# Altium integrated library Altera Stratix II GX.IntLib: 75 symbols (part 36 of 42)
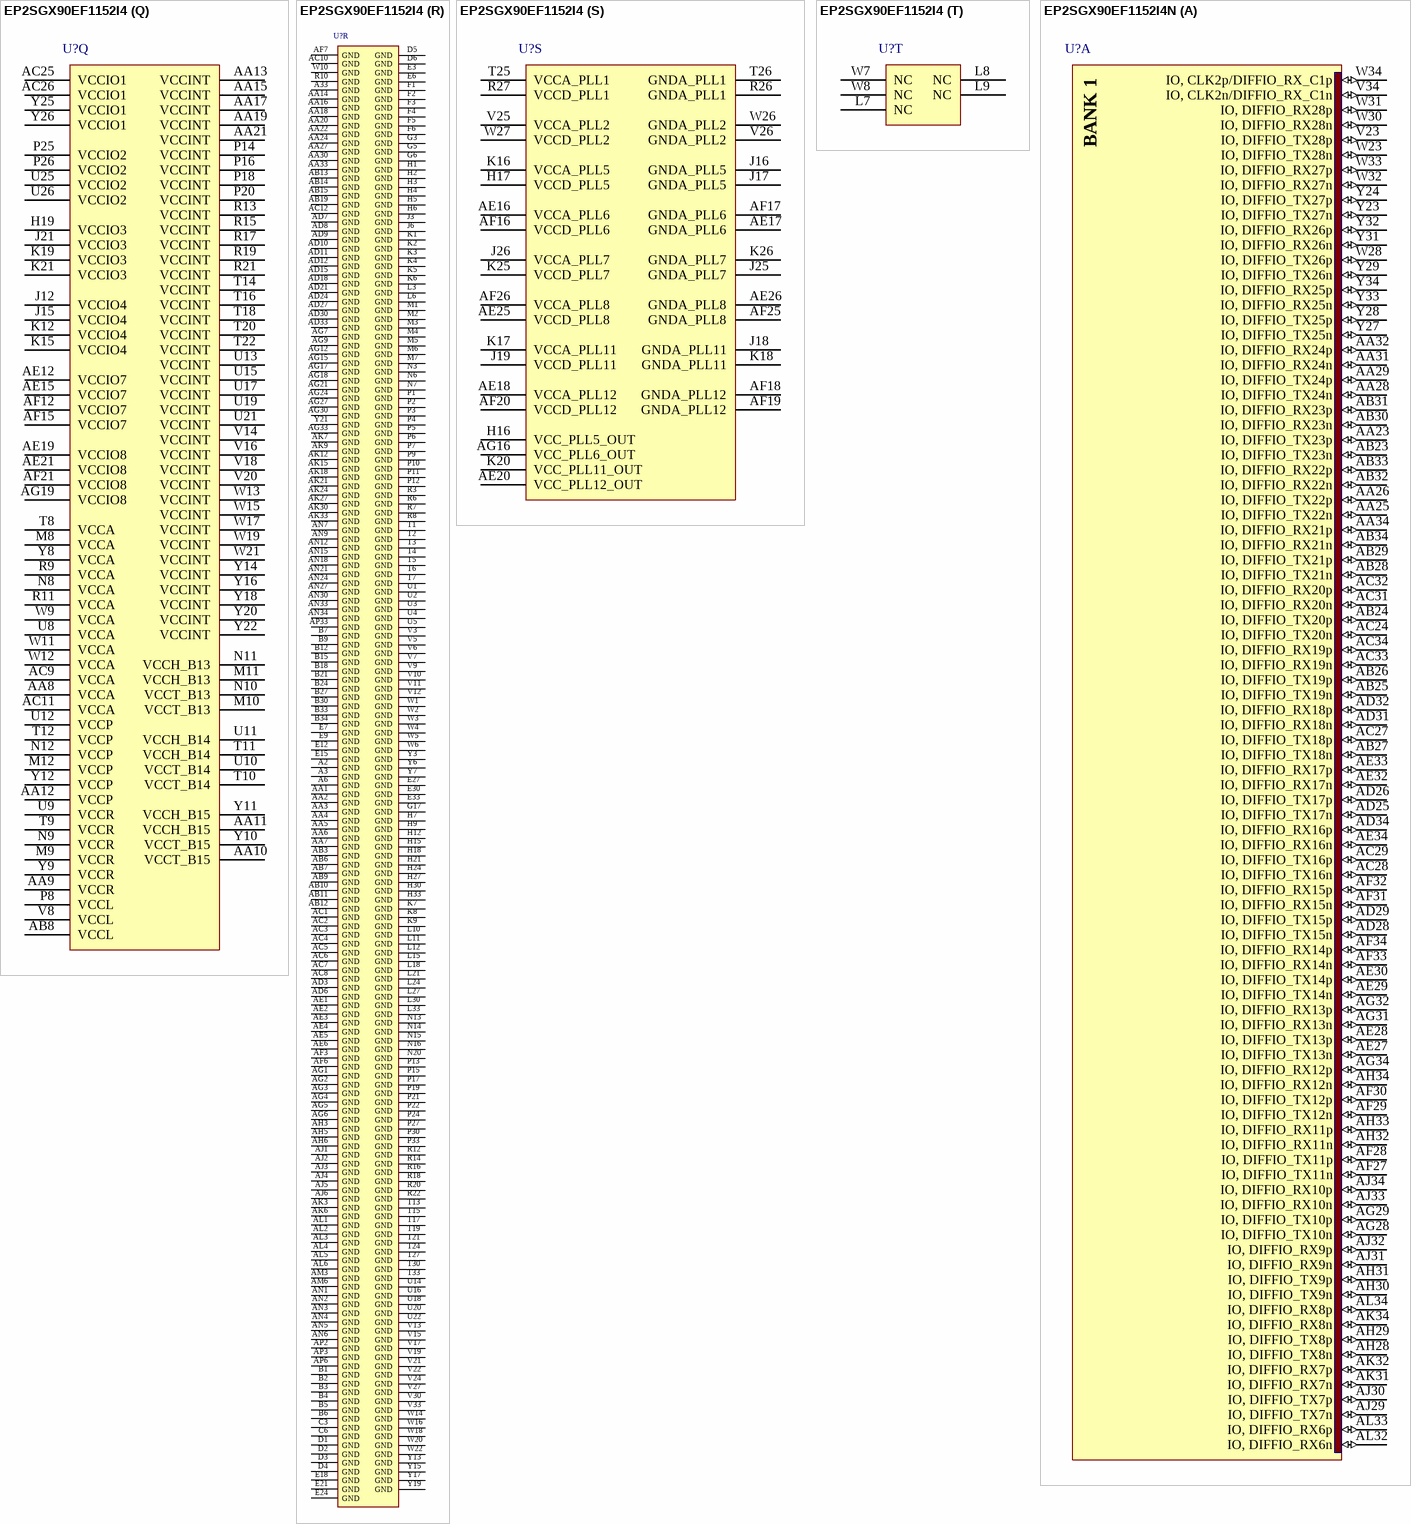
[diagram p223: symbols EP2SGX90EF1152I4 to EP2SGX90EF1152I4N]

## EP2SGX90EF1152I4
designator U?
Stratix II GX 1.2V FPGA, 558 I/Os, 1152-Pin FineLine BGA, Speed Grade 4, Industrial Grade; Published: 13-Apr-2006; LatestRevisionDate: 30-Jun-2006; LatestRevisionNote: GXB_GND pins changed to GND according to update of pinout data from vendor. DCLK changed to bidirectional pin.; DatasheetVersion: Apr-2006; PackageVersion: ver14.2, Oct-2005; PackageReference: FBGA1152; Publisher: Altium Limited; PackageDescription: 1152-Ball FineLine Ball Grid Array (FBGA1152) - Flip Chip; Code_JEDEC: MS-034-AAR-1; ComponentLink1Description: Manufacturer Link; ComponentLink1URL: http://www.altera.com/products/devices/stratix2gx/s2gx-index.jsp; ComponentLink2Description: Handbook; ComponentLink2URL: http://www.altera.com/literature/hb/stx2gx/stxiigx_handbook.pdf; ComponentLink3Description: Packaging Specification; ComponentLink3URL: http://www.altera.com/literature/ds/dspkg.pdf
footprint FBGA1152 (BGA, 1152-Leads, Body 35x35mm, Pitch 1mm)
3D model EP2SGX90E-FBGA1152 (1152-Ball FineLine Ball Grid Array (FBGA1152) - Flip Chip)
signal-integrity model EP2SGX90EF1152I4 (EP2SGX90E)
part A pins: AA23 IO, DIFFIO_TX23p (io), AA25 IO, DIFFIO_TX22n (io), AA26 IO, DIFFIO_TX22p (io), AA28 IO, DIFFIO_TX24n (io), AA29 IO, DIFFIO_TX24p (io), AA31 IO, DIFFIO_RX24n (io), AA32 IO, DIFFIO_RX24p (io), AA34 IO, DIFFIO_RX21p (io), AB23 IO, DIFFIO_TX23n (io), AB24 IO, DIFFIO_TX20p (io), AB25 IO, DIFFIO_TX19n (io), AB26 IO, DIFFIO_TX19p (io), AB27 IO, DIFFIO_TX18n (io), AB28 IO, DIFFIO_TX21n (io), AB29 IO, DIFFIO_TX21p (io), AB30 IO, DIFFIO_RX23n (io), AB31 IO, DIFFIO_RX23p (io), AB32 IO, DIFFIO_RX22n (io), AB33 IO, DIFFIO_RX22p (io), AB34 IO, DIFFIO_RX21n (io), AC24 IO, DIFFIO_TX20n (io), AC27 IO, DIFFIO_TX18p (io), AC28 IO, DIFFIO_TX16n (io), AC29 IO, DIFFIO_TX16p (io), AC31 IO, DIFFIO_RX20n (io), AC32 IO, DIFFIO_RX20p (io), AC33 IO, DIFFIO_RX19n (io), AC34 IO, DIFFIO_RX19p (io), AD25 IO, DIFFIO_TX17n (io), AD26 IO, DIFFIO_TX17p (io), AD28 IO, DIFFIO_TX15n (io), AD29 IO, DIFFIO_TX15p (io), AD31 IO, DIFFIO_RX18n (io), AD32 IO, DIFFIO_RX18p (io), AD34 IO, DIFFIO_RX16p (io), AE27 IO, DIFFIO_TX13n (io), AE28 IO, DIFFIO_TX13p (io), AE29 IO, DIFFIO_TX14n (io), AE30 IO, DIFFIO_TX14p (io), AE32 IO, DIFFIO_RX17n (io), AE33 IO, DIFFIO_RX17p (io), AE34 IO, DIFFIO_RX16n (io), AF27 IO, DIFFIO_TX11n (io), AF28 IO, DIFFIO_TX11p (io), AF29 IO, DIFFIO_TX12n (io), AF30 IO, DIFFIO_TX12p (io), AF31 IO, DIFFIO_RX15n (io), AF32 IO, DIFFIO_RX15p (io), AF33 IO, DIFFIO_RX14n (io), AF34 IO, DIFFIO_RX14p (io), AG28 IO, DIFFIO_TX10n (io), AG29 IO, DIFFIO_TX10p (io), AG31 IO, DIFFIO_RX13n (io), AG32 IO, DIFFIO_RX13p (io), AG34 IO, DIFFIO_RX12p (io), AH28 IO, DIFFIO_TX8n (io), AH29 IO, DIFFIO_TX8p (io), AH30 IO, DIFFIO_TX9n (io), AH31 IO, DIFFIO_TX9p (io), AH32 IO, DIFFIO_RX11n (io), AH33 IO, DIFFIO_RX11p (io), AH34 IO, DIFFIO_RX12n (io), AJ29 IO, DIFFIO_TX7n (io), AJ30 IO, DIFFIO_TX7p (io), AJ31 IO, DIFFIO_RX9n (io), AJ32 IO, DIFFIO_RX9p (io), AJ33 IO, DIFFIO_RX10n (io), AJ34 IO, DIFFIO_RX10p (io), AK31 IO, DIFFIO_RX7n (io), AK32 IO, DIFFIO_RX7p (io), AK34 IO, DIFFIO_RX8n (io), AL32 IO, DIFFIO_RX6n (io), AL33 IO, DIFFIO_RX6p (io), AL34 IO, DIFFIO_RX8p (io), V23 IO, DIFFIO_TX28p (io), V34 IO, CLK2n/DIFFIO_RX_C1n (io), W23 IO, DIFFIO_TX28n (io), W28 IO, DIFFIO_TX26p (io), W30 IO, DIFFIO_RX28n (io), W31 IO, DIFFIO_RX28p (io), W32 IO, DIFFIO_RX27n (io), W33 IO, DIFFIO_RX27p (io), W34 IO, CLK2p/DIFFIO_RX_C1p (io), Y23 IO, DIFFIO_TX27n (io), Y24 IO, DIFFIO_TX27p (io), Y27 IO, DIFFIO_TX25n (io), Y28 IO, DIFFIO_TX25p (io), Y29 IO, DIFFIO_TX26n (io), Y31 IO, DIFFIO_RX26n (io), Y32 IO, DIFFIO_RX26p (io), Y33 IO, DIFFIO_RX25n (io), Y34 IO, DIFFIO_RX25p (io)
part B pins: D32 IO, DIFFIO_RX50n (io), D33 IO, DIFFIO_RX50p (io), D34 IO, DIFFIO_RX48n (io), E31 IO, DIFFIO_RX49n (io), E32 IO, DIFFIO_RX49p (io), E34 IO, DIFFIO_RX48p (io), F30 IO, DIFFIO_TX51p (io), F31 IO, DIFFIO_RX47n (io), F32 IO, DIFFIO_RX47p (io), F33 IO, DIFFIO_RX46n (io), F34 IO, DIFFIO_RX46p (io), G30 IO, DIFFIO_TX50n (io), G31 IO, DIFFIO_TX51n (io), G32 IO, DIFFIO_RX45n (io), G33 IO, DIFFIO_RX45p (io), G34 IO, DIFFIO_RX43p (io), H29 IO, DIFFIO_TX50p (io), H31 IO, DIFFIO_RX44n (io), H32 IO, DIFFIO_RX44p (io), H34 IO, DIFFIO_RX43n (io), J28 IO, DIFFIO_TX49p (io), J29 IO, DIFFIO_TX48n (io), J30 IO, DIFFIO_TX48p (io), J31 IO, DIFFIO_RX42n (io), J32 IO, DIFFIO_RX42p (io), J33 IO, DIFFIO_RX41n (io), J34 IO, DIFFIO_RX41p (io), K27 IO, DIFFIO_TX49n (io), K28 IO, DIFFIO_TX44p (io), K29 IO, DIFFIO_TX47n (io), K30 IO, DIFFIO_TX47p (io), K32 IO, DIFFIO_RX40n (io), K33 IO, DIFFIO_RX40p (io), K34 IO, DIFFIO_RX38n (io), L25 IO, DIFFIO_TX46n (io), L26 IO, DIFFIO_TX46p (io), L28 IO, DIFFIO_TX44n (io), L29 IO, DIFFIO_TX43p (io), L31 IO, DIFFIO_RX39n (io), L32 IO, DIFFIO_RX39p (io), L34 IO, DIFFIO_RX38p (io), M25 IO, DIFFIO_TX45n (io), M26 IO, DIFFIO_TX45p (io), M27 IO, DIFFIO_TX42n (io), M28 IO, DIFFIO_TX42p (io), M29 IO, DIFFIO_TX43n (io), M31 IO, DIFFIO_RX37n (io), M32 IO, DIFFIO_RX37p (io), M33 IO, DIFFIO_RX36n (io), M34 IO, DIFFIO_RX36p (io), N23 IO, DIFFIO_TX39p (io), N24 IO, DIFFIO_TX40n (io), N25 IO, DIFFIO_TX40p (io), N26 IO, DIFFIO_TX41n (io), N27 IO, DIFFIO_TX41p (io), N28 IO, DIFFIO_TX38n (io), N29 IO, DIFFIO_TX38p (io), N30 IO, DIFFIO_RX35n (io), N31 IO, DIFFIO_RX35p (io), N32 IO, DIFFIO_RX34n (io), N33 IO, DIFFIO_RX34p (io), N34 IO, DIFFIO_RX32p (io), P23 IO, DIFFIO_TX39n (io), P28 IO, DIFFIO_TX37n (io), P29 IO, DIFFIO_TX37p (io), P31 IO, DIFFIO_RX33n (io), P32 IO, DIFFIO_RX33p (io), P34 IO, DIFFIO_RX32n (io), R23 IO, DIFFIO_TX35p (io), R28 IO, DIFFIO_TX36n (io), R29 IO, DIFFIO_TX36p (io), R31 IO, DIFFIO_RX31n (io), R32 IO, DIFFIO_RX31p (io), R33 IO, DIFFIO_RX30n (io), R34 IO, DIFFIO_RX30p (io), T23 IO, DIFFIO_TX35n (io), T28 IO, DIFFIO_TX34n (io), T29 IO, DIFFIO_TX34p (io), T31 IO, DIFFIO_RX29n (io), T32 IO, DIFFIO_RX29p (io), T34 IO, CLK0n/DIFFIO_RX_C0n (io), U23 IO, DIFFIO_TX33n (io), U24 IO, DIFFIO_TX33p (io), U27 IO, DIFFIO_TX29p (io), U28 IO, DIFFIO_TX31n (io), U29 IO, DIFFIO_TX31p (io), U30 IO, DIFFIO_TX32n (io), U31 IO, DIFFIO_TX32p (io), U34 IO, CLK0p/DIFFIO_RX_C0p (io), V28 IO, DIFFIO_TX29n (io), V29 IO, DIFFIO_TX30n (io), W29 IO, DIFFIO_TX30p (io)
part C pins: A21 IO, DQ10T/DQ5T1/DQ2T2/DQ1T2 (io), A22 IO, DQ11T/DQ5T5/DQ2T5/DQ1T6 (io), A23 IO, DQ12T/DQ6T1/DQ2T11/DQ1T12 (io), A24 IO, DQ13T/DQ6T5/DQ2T15/DQ1T15 (io), A25 IO, DQ13T/DQ6T6/DQ2T16/DQ1T16 (io), A26 IO, DQ14T/DQ7T3/DQ3T4/DQ1T22 (io), A27 IO, DQ15T/DQ7T5/DQ3T5/DQ1T24 (io), A28 IO, DQ15T/DQ7T6/DQ3T6/DQ1T25 (io), A29 IO, DQ16T/DQ8T0/DQ3T10/DQ1T29 (io), A30 IO, DQ17T/DQ8T5/DQ3T15/DQ1T34 (io), A31 IO, DQS17T/DQVLD8T (io), A32 IO, DQ17T/DQ8T6/DQ3T16/DQ1T35 (io), B19 IO, CLK14p (io), B22 IO, DQ11T/DQ5T6/DQ2T6/DQ1T7 (io), B23 IO, DQ12T/DQ6T0/DQ2T10/DQ1T11 (io), B25 IO, DQS13T/DQVLD6T/DQS1T (io), B26 IO, DQ14T/DQ7T0/DQ3T1/DQ1T19 (io), B28 IO, DQS15T/DQVLD7T/DQS3T (io), B29 IO, DQ16T/DQ8T3/DQ3T13/DQ1T32 (io), B31 IO, DQSn17T/DQ8T4/DQ3T14/DQ1T33 (io), B32 IO, DQ17T/DQ8T7/DQ3T17 (io), C19 IO, CLK14n (io), C21 IO, DQ10T/DQ5T0/DQ2T1/DQ1T1 (io), C22 IO, DQS11T/DQVLD5T/DQS2T (io), C23 IO, DQS12T/DQS6T/DQVLD2T/DQVLD1T (io), C24 IO, DQSn12T/DQSn6T/DQ2T9/DQ1T10 (io), C25 IO, DQSn13T/DQ6T4/DQ2T14/DQSn1T (io), C26 IO, DQS14T/DQS7T (io), C27 IO, DQ15T/DQ7T7/DQ3T7/DQ1T26 (io), C28 IO, DQSn15T/DQ7T4/DQSn3T/DQ1T23 (io), C29 IO, DQS16T/DQS8T/DQVLD3T (io), C30 IO, DQ17T/DQ8T8 (io), D19 IO, CLK15p (io), D21 IO, DQSn10T/DQSn5T/DQ2T0/DQ1T0 (io), D22 IO, DQS10T/DQS5T (io), D23 IO, DQSn11T/DQ5T4/DQSn2T/DQ1T5 (io), D24 IO, DQ12T/DQ6T2/DQ2T12/DQ1T13 (io), D25 IO, DQ13T/DQ6T8 (io), D26 IO, DQSn14T/DQSn7T/DQ3T0/DQ1T18 (io), D27 IO, DQ15T/DQ7T8/DQ3T8/DQ1T27 (io), D28 IO, DQ16T/DQ8T1/DQ3T11/DQ1T30 (io), D29 IO, DQSn16T/DQSn8T/DQ3T9/DQ1T28 (io), E19 IO, CLK15n (io), E23 IO, DQ11T/DQ5T8/DQ2T8/DQ1T9 (io), E26 IO, DQ14T/DQ7T1/DQ3T2/DQ1T20 (io), E29 IO, DQ16T/DQ8T2/DQ3T12/DQ1T31 (io), F21 IO, DQ10T/DQ5T2/DQ2T3/DQ1T3 (io), F22 IO, DQ10T/DQ5T3/DQ2T4/DQ1T4 (io), F23 IO, DQ11T/DQ5T7/DQ2T7/DQ1T8 (io), F24 IO, DQ12T/DQ6T3/DQ2T13/DQ1T14 (io), F25 IO, DQ13T/DQ6T7/DQ2T17/DQ1T17 (io), F26 IO, DQ14T/DQ7T2/DQ3T3/DQ1T21 (io), F27 IO (DATA3) (io), F28 IO (RDYnBSY) (io), F29 IO (io), G20 IO (PGM2) (io), G21 IO (nCSO) (io), G22 IO (CRC_ERROR) (io), G23 IO (io), G24 IO (io), G25 IO (DATA2) (io), G26 IO (DATA6) (io), G27 IO (DATA5) (io), G28 IO (INIT_DONE) (io), G29 IO (io), H20 IO (PGM1) (io), H22 IO (PGM0) (io), H23 IO (io), H25 IO (DATA4) (io), H26 IO (DATA7) (io), H28 IO (io), J20 IO (DATA0) (io), J22 IO (DATA1) (io), J23 IO (io), J24 IO (io), J27 IO (io), K22 IO (io), K23 IO (io), K24 IO (io), L22 IO (io), L23 IO (io), M20 IO (io), M21 IO (io), M22 IO (io), M23 IO (io), M24 IO (io), N21 IO (ASDO) (io), N22 IO (io)
part D pins: A7 IO, DQ0T/DQ0T3 (io), A8 IO, DQ1T/DQ0T8 (io), A9 IO, DQ2T/DQ1T3/DQ0T4/DQ0T4 (io), A10 IO, DQ3T/DQ1T8/DQ0T8/DQ0T9 (io), A11 IO, DQ4T/DQ2T3/DQ0T13/DQ0T14 (io), A12 IO, DQ5T/DQ2T8 (io), A13 IO, DQ6T/DQ3T3/DQ1T4/DQ0T22 (io), A14 IO, DQ7T/DQ3T8/DQ1T8/DQ0T27 (io), A15 IO, DQ8T/DQ4T0/DQ1T10/DQ0T29 (io), A16 IO, DQ9T/DQ4T5/DQ1T15/DQ0T34 (io), A18 IO, CLK12p (io), A19 IO, CLK12n (io), B8 IO, DQ1T/DQ0T5 (io), B10 IO, DQ3T/DQ1T5/DQ0T5/DQ0T6 (io), B11 IO, DQ4T/DQ2T0/DQ0T10/DQ0T11 (io), B13 IO, DQ6T/DQ3T0/DQ1T1/DQ0T19 (io), B14 IO, DQ7T/DQ3T5/DQ1T5/DQ0T24 (io), B16 IO, DQ9T/DQ4T6/DQ1T16/DQ0T35 (io), C7 IO, DQSn0T/DQSn0T (io), C8 IO, DQSn1T/DQ0T4 (io), C9 IO, DQSn2T/DQSn1T/DQ0T0/DQ0T0 (io), C10 IO, DQSn3T/DQ1T4/DQSn0T/DQ0T5 (io), C11 IO, DQSn4T/DQSn2T/DQ0T9/DQ0T10 (io), C12 IO, DQSn5T/DQ2T4/DQ0T14/DQSn0T (io), C13 IO, DQSn6T/DQSn3T/DQ1T0/DQ0T18 (io), C14 IO, DQSn7T/DQ3T4/DQSn1T/DQ0T23 (io), C15 IO, DQSn8T/DQSn4T/DQ1T9/DQ0T28 (io), C16 IO, DQS9T/DQVLD4T (io), C18 IO, CLK13p (io), D7 IO, DQS0T/DQS0T (io), D8 IO, DQS1T/DQVLD0T (io), D9 IO, DQS2T/DQS1T (io), D10 IO, DQS3T/DQVLD1T/DQS0T (io), D11 IO, DQS4T/DQS2T/DQVLD0T/DQVLD0T (io), D12 IO, DQS5T/DQVLD2T/DQS0T (io), D13 IO, DQS6T/DQS3T (io), D14 IO, DQS7T/DQVLD3T/DQS1T (io), D15 IO, DQS8T/DQS4T/DQVLD1T (io), D16 IO, DQSn9T/DQ4T4/DQ1T14/DQ0T33 (io), D18 IO, CLK13n (io), E8 IO, DQ1T/DQ0T6 (io), E11 IO, DQ4T/DQ2T1/DQ0T11/DQ0T12 (io), E14 IO, DQ7T/DQ3T7/DQ1T7/DQ0T26 (io), F7 IO, DQ0T/DQ0T0 (io), F8 IO, DQ1T/DQ0T7 (io), F9 IO, DQ2T/DQ1T0/DQ0T1/DQ0T1 (io), F10 IO, DQ3T/DQ1T6/DQ0T6/DQ0T7 (io), F11 IO, DQ4T/DQ2T2/DQ0T12/DQ0T13 (io), F12 IO, DQ5T/DQ2T5/DQ0T15/DQ0T15 (io), F13 IO, DQ6T/DQ3T1/DQ1T2/DQ0T20 (io), F14 IO, DQ7T/DQ3T6/DQ1T6/DQ0T25 (io), F15 IO, DQ8T/DQ4T1/DQ1T11/DQ0T30 (io), F16 IO, DQ9T/DQ4T7/DQ1T17 (io), F18 IO (io), F19 IO (io), G7 IO, DQ0T/DQ0T1 (io), G8 IO, DQ2T/DQ1T1/DQ0T2/DQ0T2 (io), G9 IO, DQ2T/DQ1T2/DQ0T3/DQ0T3 (io), G10 IO, DQ3T/DQ1T7/DQ0T7/DQ0T8 (io), G11 IO, DQ5T/DQ2T7/DQ0T17/DQ0T17 (io), G12 IO, DQ5T/DQ2T6/DQ0T16/DQ0T16 (io), G13 IO, DQ6T/DQ3T2/DQ1T3/DQ0T21 (io), G14 IO, DQ8T/DQ4T3/DQ1T13/DQ0T32 (io), G15 IO, DQ8T/DQ4T2/DQ1T12/DQ0T31 (io), G16 IO, DQ9T/DQ4T8 (io), G18 IO (io), G19 IO (io), H8 IO, DQ0T/DQ0T2 (io), H13 IO (io), H14 IO (io), J11 IO, RUP4 (io), J13 IO (io), J14 IO (io), K11 IO, RDN4 (io), K13 IO (io), K14 IO (io), L13 IO (io), L14 IO (io), M13 IO (io), M14 IO (io), M15 IO (io), M16 IO (io), M17 IO (io), M18 IO (io), M19 IO (io), N17 IO (io), N18 IO (io), N19 IO (io)
part E pins: AB16 IO (io), AC13 IO (io), AC14 IO (io), AC15 IO (io), AC16 IO (io), AC17 IO (io), AD13 IO (io), AD14 IO (io), AE9 IO, RUP7 (io), AE10 IO, RDN7 (io), AE11 IO (io), AE13 IO (io), AE14 IO (io), AF10 IO (io), AF11 IO (io), AF13 IO (io), AF14 IO (io), AG8 IO, DQ0B/DQ0B2 (io), AG10 IO (io), AG11 IO (io), AG13 IO (io), AG14 IO (io), AH7 IO, DQ0B/DQ0B1 (io), AH8 IO, DQ2B/DQ1B1/DQ0B2/DQ0B2 (io), AH9 IO, DQ2B/DQ1B2/DQ0B3/DQ0B3 (io), AH10 IO, DQ3B/DQ1B7/DQ0B7/DQ0B8 (io), AH11 IO, DQ5B/DQ2B7/DQ0B17/DQ0B17 (io), AH12 IO, DQ5B/DQ2B6/DQ0B16/DQ0B16 (io), AH13 IO, DQ6B/DQ3B2/DQ1B3/DQ0B21 (io), AH14 IO (io), AH15 IO, DQ8B/DQ4B2/DQ1B12/DQ0B31 (io), AH16 IO, DQ8B/DQ4B3/DQ1B13/DQ0B32 (io), AH17 IO (io), AJ7 IO, DQ0B/DQ0B0 (io), AJ8 IO, DQ1B/DQ0B7 (io), AJ9 IO, DQ2B/DQ1B0/DQ0B1/DQ0B1 (io), AJ10 IO, DQ3B/DQ1B6/DQ0B6/DQ0B7 (io), AJ11 IO, DQ4B/DQ2B2/DQ0B12/DQ0B13 (io), AJ12 IO, DQ5B/DQ2B5/DQ0B15/DQ0B15 (io), AJ13 IO, DQ6B/DQ3B1/DQ1B2/DQ0B20 (io), AJ14 IO, DQ7B/DQ3B6/DQ1B6/DQ0B25 (io), AJ15 IO, DQ8B/DQ4B1/DQ1B11/DQ0B30 (io), AJ16 IO, DQ9B/DQ4B8 (io), AJ17 IO (io), AK8 IO, DQ1B/DQ0B6 (io), AK11 IO, DQ4B/DQ2B1/DQ0B11/DQ0B12 (io), AK14 IO, DQ7B/DQ3B7/DQ1B7/DQ0B26 (io), AK16 IO, DQ9B/DQ4B7/DQ1B17 (io), AK19 IO, CLK7n (io), AL7 IO, DQS0B/DQS0B (io), AL8 IO, DQS1B/DQVLD0B (io), AL9 IO, DQS2B/DQS1B (io), AL10 IO, DQS3B/DQVLD1B/DQS0B (io), AL11 IO, DQS4B/DQS2B/DQVLD0B/DQVLD0B (io), AL12 IO, DQS5B/DQVLD2B/DQS0B (io), AL13 IO, DQS6B/DQS3B (io), AL14 IO, DQS7B/DQVLD3B/DQS1B (io), AL15 IO, DQS8B/DQS4B/DQVLD1B (io), AL16 IO, DQSn9B/DQ4B4/DQ1B14/DQ0B33 (io), AL19 IO, CLK7p (io), AM7 IO, DQSn0B/DQSn0B (io), AM8 IO, DQSn1B/DQ0B4 (io), AM9 IO, DQSn2B/DQSn1B/DQ0B0/DQ0B0 (io), AM10 IO, DQSn3B/DQ1B4/DQSn0B/DQ0B5 (io), AM11 IO, DQSn4B/DQSn2B/DQ0B9/DQ0B10 (io), AM12 IO, DQSn5B/DQ2B4/DQ0B14/DQSn0B (io), AM13 IO, DQSn6B/DQSn3B/DQ1B0/DQ0B18 (io), AM14 IO, DQSn7B/DQ3B4/DQSn1B/DQ0B23 (io), AM15 IO, DQSn8B/DQSn4B/DQ1B9/DQ0B28 (io), AM16 IO, DQS9B/DQVLD4B (io), AN8 IO, DQ1B/DQ0B5 (io), AN10 IO, DQ3B/DQ1B5/DQ0B5/DQ0B6 (io), AN11 IO, DQ4B/DQ2B0/DQ0B10/DQ0B11 (io), AN13 IO, DQ6B/DQ3B0/DQ1B1/DQ0B19 (io), AN14 IO, DQ7B/DQ3B5/DQ1B5/DQ0B24 (io), AN16 IO, DQ9B/DQ4B6/DQ1B16/DQ0B35 (io), AP7 IO, DQ0B/DQ0B3 (io), AP8 IO, DQ1B/DQ0B8 (io), AP9 IO, DQ2B/DQ1B3/DQ0B4/DQ0B4 (io), AP10 IO, DQ3B/DQ1B8/DQ0B8/DQ0B9 (io), AP11 IO, DQ4B/DQ2B3/DQ0B13/DQ0B14 (io), AP12 IO, DQ5B/DQ2B8 (io), AP13 IO, DQ6B/DQ3B3/DQ1B4/DQ0B22 (io), AP14 IO, DQ7B/DQ3B8/DQ1B8/DQ0B27 (io), AP15 IO, DQ8B/DQ4B0/DQ1B10/DQ0B29 (io), AP16 IO, DQ9B/DQ4B5/DQ1B15/DQ0B34 (io), AP18 IO, CLK6p (io), AP19 IO, CLK6n (io)
part F pins: AB17 IO (io), AB18 IO (io), AB20 IO (io), AB21 IO (io), AB22 IO (io), AC18 IO (io), AC19 IO (io), AC20 IO (io), AC21 IO (io), AC22 IO (io), AC23 IO (io), AD22 IO (io), AD23 IO (io), AE22 IO (io), AE23 IO (io), AF22 IO (io), AF23 IO (io), AG20 IO (DEV_OE) (io), AG22 IO (io), AG23 IO (io), AG25 IO (nRS) (io), AG26 IO (nWS) (io), AH18 IO (RUnLU) (io), AH19 IO, CLK5n (io), AH20 IO (DEV_CLRn) (io), AH21 IO (io), AH22 IO (io), AH23 IO (io), AH24 IO (io), AH25 IO (io), AH26 IO (CLKUSR) (io), AH27 IO (CS) (io), AJ18 IO (nCS) (io), AJ19 IO, CLK5p (io), AJ21 IO, DQ10B/DQ5B0/DQ2B1/DQ1B1 (io), AJ22 IO, DQ10B/DQ5B3/DQ2B4/DQ1B4 (io), AJ23 IO, DQ12B/DQ6B2/DQ2B12/DQ1B13 (io), AJ24 IO, DQ13B/DQ6B8 (io), AJ25 IO, DQ13B/DQ6B7/DQ2B17/DQ1B17 (io), AJ26 IO, DQ14B/DQ7B2/DQ3B3/DQ1B21 (io), AJ27 IO, DQ15B/DQ7B8/DQ3B8/DQ1B27 (io), AJ28 IO, DQ15B/DQ7B7/DQ3B7/DQ1B26 (io), AK23 IO, DQ12B/DQ6B1/DQ2B11/DQ1B12 (io), AK26 IO, DQ14B/DQ7B1/DQ3B2/DQ1B20 (io), AK29 IO (io), AL21 IO, DQS10B/DQS5B (io), AL22 IO, DQSn10B/DQSn5B/DQ2B0/DQ1B0 (io), AL23 IO, DQS12B/DQS6B/DQVLD2B/DQVLD1B (io), AL24 IO, DQSn12B/DQSn6B/DQ2B9/DQ1B10 (io), AL25 IO, DQSn13B/DQ6B4/DQ2B14/DQSn1B (io), AL26 IO, DQSn14B/DQSn7B/DQ3B0/DQ1B18 (io), AL27 IO, DQS15B/DQVLD7B/DQS3B (io), AL28 IO, DQSn15B/DQ7B4/DQSn3B/DQ1B23 (io), AL29 IO (io), AM19 IO, CLK4n (io), AM21 IO, DQ10B/DQ5B2/DQ2B3/DQ1B3 (io), AM22 IO, DQ11B/DQ5B6/DQ2B6/DQ1B7 (io), AM23 IO, DQ11B/DQ5B8/DQ2B8/DQ1B9 (io), AM24 IO, DQ12B/DQ6B3/DQ2B13/DQ1B14 (io), AM25 IO, DQS13B/DQVLD6B/DQS1B (io), AM26 IO, DQS14B/DQS7B (io), AM27 IO, DQ15B/DQ7B6/DQ3B6/DQ1B25 (io), AM28 IO, DQ16B/DQ8B0/DQ3B10/DQ1B29 (io), AM29 IO, DQ16B/DQ8B2/DQ3B12/DQ1B31 (io), AM30 IO, DQ17B/DQ8B8 (io), AN19 IO, CLK4p (io), AN22 IO, DQS11B/DQVLD5B/DQS2B (io), AN23 IO, DQSn11B/DQ5B4/DQSn2B/DQ1B5 (io), AN25 IO, DQ13B/DQ6B6/DQ2B16/DQ1B16 (io), AN26 IO, DQ14B/DQ7B3/DQ3B4/DQ1B22 (io), AN28 IO, DQS16B/DQS8B/DQVLD3B (io), AN29 IO, DQSn16B/DQSn8B/DQ3B9/DQ1B28 (io), AN31 IO, DQSn17B/DQ8B4/DQ3B14/DQ1B33 (io), AN32 IO, DQ17B/DQ8B7/DQ3B17 (io), AP21 IO, DQ10B/DQ5B1/DQ2B2/DQ1B2 (io), AP22 IO, DQ11B/DQ5B5/DQ2B5/DQ1B6 (io), AP23 IO, DQ11B/DQ5B7/DQ2B7/DQ1B8 (io), AP24 IO, DQ12B/DQ6B0/DQ2B10/DQ1B11 (io), AP25 IO, DQ13B/DQ6B5/DQ2B15/DQ1B15 (io), AP26 IO, DQ14B/DQ7B0/DQ3B1/DQ1B19 (io), AP27 IO, DQ15B/DQ7B5/DQ3B5/DQ1B24 (io), AP28 IO, DQ16B/DQ8B1/DQ3B11/DQ1B30 (io), AP29 IO, DQ16B/DQ8B3/DQ3B13/DQ1B32 (io), AP30 IO, DQ17B/DQ8B5/DQ3B15/DQ1B34 (io), AP31 IO, DQS17B/DQVLD8B (io), AP32 IO, DQ17B/DQ8B6/DQ3B16/DQ1B35 (io)
part G pins: A17 IO, PLL5_OUT0p (io), B17 IO, PLL5_OUT0n (io), C17 IO, PLL5_OUT1p (io), D17 IO, PLL5_OUT1n (io), E17 IO, PLL5_FBp/OUT2p (io), F17 IO, PLL5_FBn/OUT2n (io)
part H pins: AL17 IO, PLL6_FBn/OUT2n (io), AL18 IO, PLL6_OUT1n (io), AM17 IO, PLL6_FBp/OUT2p (io), AM18 IO, PLL6_OUT1p (io), AN17 IO, PLL6_OUT0n (io), AP17 IO, PLL6_OUT0p (io)
part I pins: A20 IO, PLL11_OUT0p (io), B20 IO, PLL11_OUT0n (io), C20 IO, PLL11_OUT1p (io), D20 IO, PLL11_OUT1n (io), E20 IO, PLL11_FBp/OUT2p (io), F20 IO, PLL11_FBn/OUT2n (io)
part J pins: AJ20 IO, PLL12_FBn/OUT2n (io), AK20 IO, PLL12_FBp/OUT2p (io), AL20 IO, PLL12_OUT1n (io), AM20 IO, PLL12_OUT1p (io), AN20 IO, PLL12_OUT0n (io), AP20 IO, PLL12_OUT0p (io)
part K pins: A4 GXB_TX1p (out), A5 GXB_TX1n (out), C1 GXB_RX1p (in), C2 GXB_RX1n (in), C4 GXB_TX0p (out), C5 GXB_TX0n (out), E1 GXB_RX0p (in), E2 GXB_RX0n (in), E4 REFCLK1_B13p (in), E5 REFCLK1_B13n (in), G1 REFCLK0_B13p (in), G2 REFCLK0_B13n (in), J1 GXB_RX2p (in), J2 GXB_RX2n (in), J4 GXB_TX2p (out), J5 GXB_TX2n (out), L1 GXB_RX3p (in), L2 GXB_RX3n (in), L4 GXB_TX3p (out), L5 GXB_TX3n (out)
part L pins: AB1 GXB_RX7p (in), AB2 GXB_RX7n (in), AB4 GXB_TX7p (out), AB5 GXB_TX7n (out), N1 GXB_RX5p (in), N2 GXB_RX5n (in), N4 GXB_TX5p (out), N5 GXB_TX5n (out), R1 GXB_RX4p (in), R2 GXB_RX4n (in), R4 GXB_TX4p (out), R5 GXB_TX4n (out), U6 REFCLK1_B14p (in), U7 REFCLK1_B14n (in), V1 REFCLK0_B14p (in), V2 REFCLK0_B14n (in), Y1 GXB_RX6p (in), Y2 GXB_RX6n (in), Y4 GXB_TX6p (out), Y5 GXB_TX6n (out)
part M pins: AD1 GXB_RX9p (in), AD2 GXB_RX9n (in), AD4 GXB_TX9p (out), AD5 GXB_TX9n (out), AF1 GXB_RX8p (in), AF2 GXB_RX8n (in), AF4 GXB_TX8p (out), AF5 GXB_TX8n (out), AH1 REFCLK1_B15p (in), AH2 REFCLK1_B15n (in), AK1 GXB_RX10p (in), AK2 GXB_RX10n (in), AK4 REFCLK0_B15p (in), AK5 REFCLK0_B15n (in), AM1 GXB_RX11p (in), AM2 GXB_RX11n (in), AM4 GXB_TX10p (out), AM5 GXB_TX10n (out), AP4 GXB_TX11p (out), AP5 GXB_TX11n (out)
part N pins: AM33 FPLL8CLKn, INPUT (in), AM34 FPLL8CLKp, INPUT (in), C33 FPLL7CLKn, INPUT (in), C34 FPLL7CLKp, INPUT (in), U32 CLK1n, INPUT (in), U33 CLK1p, INPUT (in), V31 CLK3n, INPUT (in), V32 CLK3p, INPUT (in)
part O pins: AC30 VREFB1N1 (in), AE31 VREFB1N0 (in), AH4 RREFB15 (in), AK10 VREFB7N2 (in), AK13 VREFB7N1 (in), AK17 VREFB7N0 (in), AK22 VREFB8N2 (in), AK25 VREFB8N1 (in), AK28 VREFB8N0 (in), E10 VREFB4N0 (in), E13 VREFB4N1 (in), E16 VREFB4N2 (in), E22 VREFB3N0 (in), E25 VREFB3N1 (in), E28 VREFB3N2 (in), G4 RREFB13 (in), K31 VREFB2N2 (in), M30 VREFB2N1 (in), R30 VREFB2N0 (in), V4 RREFB14 (in), Y30 VREFB1N2 (in)
part P pins: AD16 VCCPD7 (power), AD17 VCCPD7 (power), AD19 VCCPD8 (power), AD20 VCCPD8 (power), AE7 nIO_PULLUP (in), AE8 PORSEL (in), AE24 nCONFIG (in), AF8 PLL_ENA (in), AF9 nCEO (out), AF24 VCCSEL (in), AL30 TCK (in), AL31 TDI (in), AM31 TRST (in), AM32 TMS (in), C31 nSTATUS (io), C32 DCLK (io), D30 nCE (in), D31 CONF_DONE (io), H10 TDO (out), H11 MSEL3 (in), J7 TEMPDIODEn (in), J8 TEMPDIODEp (in), J9 MSEL1 (in), J10 MSEL2 (in), K10 MSEL0 (in), L16 VCCPD4 (power), L17 VCCPD4 (power), L19 VCCPD3 (power), L20 VCCPD3 (power), R24 VCCPD2 (power), R25 VCCPD2 (power), W24 VCCPD1 (power), W25 VCCPD1 (power)
part Q pins: AA8 VCCA (power), AA9 VCCR (power), AA10 VCCT_B15 (power), AA11 VCCH_B15 (power), AA12 VCCP (power), AA13 VCCINT (power), AA15 VCCINT (power), AA17 VCCINT (power), AA19 VCCINT (power), AA21 VCCINT (power), AB8 VCCL (power), AC9 VCCA (power), AC11 VCCA (power), AC25 VCCIO1 (power), AC26 VCCIO1 (power), AE12 VCCIO7 (power), AE15 VCCIO7 (power), AE19 VCCIO8 (power), AE21 VCCIO8 (power), AF12 VCCIO7 (power), AF15 VCCIO7 (power), AF21 VCCIO8 (power), AG19 VCCIO8 (power), H19 VCCIO3 (power), J12 VCCIO4 (power), J15 VCCIO4 (power), J21 VCCIO3 (power), K12 VCCIO4 (power), K15 VCCIO4 (power), K19 VCCIO3 (power), K21 VCCIO3 (power), M8 VCCA (power), M9 VCCR (power), M10 VCCT_B13 (power), M11 VCCH_B13 (power), M12 VCCP (power), N8 VCCA (power), N9 VCCR (power), N10 VCCT_B13 (power), N11 VCCH_B13 (power), N12 VCCP (power), P8 VCCL (power), P14 VCCINT (power), P16 VCCINT (power), P18 VCCINT (power), P20 VCCINT (power), P25 VCCIO2 (power), P26 VCCIO2 (power), R9 VCCA (power), R11 VCCA (power), R13 VCCINT (power), R15 VCCINT (power), R17 VCCINT (power), R19 VCCINT (power), R21 VCCINT (power), T8 VCCA (power), T9 VCCR (power), T10 VCCT_B14 (power), T11 VCCH_B14 (power), T12 VCCP (power), T14 VCCINT (power), T16 VCCINT (power), T18 VCCINT (power), T20 VCCINT (power), T22 VCCINT (power), U8 VCCA (power), U9 VCCR (power), U10 VCCT_B14 (power), U11 VCCH_B14 (power), U12 VCCP (power), U13 VCCINT (power), U15 VCCINT (power), U17 VCCINT (power), U19 VCCINT (power), U21 VCCINT (power), U25 VCCIO2 (power), U26 VCCIO2 (power), V8 VCCL (power), V14 VCCINT (power), V16 VCCINT (power), V18 VCCINT (power), V20 VCCINT (power), W9 VCCA (power), W11 VCCA (power), W12 VCCA (power), W13 VCCINT (power), W15 VCCINT (power), W17 VCCINT (power), W19 VCCINT (power), W21 VCCINT (power), Y8 VCCA (power), Y9 VCCR (power), Y10 VCCT_B15 (power), Y11 VCCH_B15 (power), Y12 VCCP (power), Y14 VCCINT (power), Y16 VCCINT (power), Y18 VCCINT (power), Y20 VCCINT (power), Y22 VCCINT (power), Y25 VCCIO1 (power), Y26 VCCIO1 (power)
part R pins: A2 GND (power), A3 GND (power), A6 GND (power), A33 GND (power), AA1 GND (power), AA2 GND (power), AA3 GND (power), AA4 GND (power), AA5 GND (power), AA6 GND (power), AA7 GND (power), AA14 GND (power), AA16 GND (power), AA18 GND (power), AA20 GND (power), AA22 GND (power), AA24 GND (power), AA27 GND (power), AA30 GND (power), AA33 GND (power), AB3 GND (power), AB6 GND (power), AB7 GND (power), AB9 GND (power), AB10 GND (power), AB11 GND (power), AB12 GND (power), AB13 GND (power), AB14 GND (power), AB15 GND (power), AB19 GND (power), AC1 GND (power), AC2 GND (power), AC3 GND (power), AC4 GND (power), AC5 GND (power), AC6 GND (power), AC7 GND (power), AC8 GND (power), AC10 GND (power), AC12 GND (power), AD3 GND (power), AD6 GND (power), AD7 GND (power), AD8 GND (power), AD9 GND (power), AD10 GND (power), AD11 GND (power), AD12 GND (power), AD15 GND (power), AD18 GND (power), AD21 GND (power), AD24 GND (power), AD27 GND (power), AD30 GND (power), AD33 GND (power), AE1 GND (power), AE2 GND (power), AE3 GND (power), AE4 GND (power), AE5 GND (power), AE6 GND (power), AF3 GND (power), AF6 GND (power), AF7 GND (power), AG1 GND (power), AG2 GND (power), AG3 GND (power), AG4 GND (power), AG5 GND (power), AG6 GND (power), AG7 GND (power), AG9 GND (power), AG12 GND (power), AG15 GND (power), AG17 GND (power), AG18 GND (power), AG21 GND (power), AG24 GND (power), AG27 GND (power), AG30 GND (power), AG33 GND (power), AH3 GND (power), AH5 GND (power), AH6 GND (power), AJ1 GND (power), AJ2 GND (power), AJ3 GND (power), AJ4 GND (power), AJ5 GND (power), AJ6 GND (power), AK3 GND (power), AK6 GND (power), AK7 GND (power), AK9 GND (power), AK12 GND (power), AK15 GND (power), AK18 GND (power), AK21 GND (power), AK24 GND (power), AK27 GND (power), AK30 GND (power), AK33 GND (power), AL1 GND (power), AL2 GND (power), AL3 GND (power), AL4 GND (power), AL5 GND (power), AL6 GND (power), AM3 GND (power), AM6 GND (power), AN1 GND (power), AN2 GND (power), AN3 GND (power), AN4 GND (power), AN5 GND (power), AN6 GND (power), AN7 GND (power), AN9 GND (power), AN12 GND (power), AN15 GND (power), AN18 GND (power), AN21 GND (power), AN24 GND (power), AN27 GND (power), AN30 GND (power), AN33 GND (power), AN34 GND (power), AP2 GND (power), AP3 GND (power), AP6 GND (power), AP33 GND (power), B1 GND (power), B2 GND (power), B3 GND (power), B4 GND (power), B5 GND (power), B6 GND (power), B7 GND (power), B9 GND (power), B12 GND (power), B15 GND (power), B18 GND (power), B21 GND (power), B24 GND (power), B27 GND (power), B30 GND (power), B33 GND (power), B34 GND (power), C3 GND (power), C6 GND (power), D1 GND (power), D2 GND (power), D3 GND (power), D4 GND (power), D5 GND (power), D6 GND (power), E3 GND (power), E6 GND (power), E7 GND (power), E9 GND (power), E12 GND (power), E15 GND (power), E18 GND (power), E21 GND (power), E24 GND (power), E27 GND (power), E30 GND (power), E33 GND (power), F1 GND (power), F2 GND (power), F3 GND (power), F4 GND (power), F5 GND (power), F6 GND (power), G3 GND (power), G5 GND (power), G6 GND (power), G17 GND (power), H1 GND (power), H2 GND (power), H3 GND (power), H4 GND (power), H5 GND (power), H6 GND (power), H7 GND (power), H9 GND (power), H12 GND (power), H15 GND (power), H18 GND (power), H21 GND (power), H24 GND (power), H27 GND (power), H30 GND (power), H33 GND (power), J3 GND (power), J6 GND (power), K1 GND (power), K2 GND (power), K3 GND (power), K4 GND (power), K5 GND (power), K6 GND (power), K7 GND (power), K8 GND (power), K9 GND (power), L3 GND (power), L6 GND (power), L10 GND (power), L11 GND (power), L12 GND (power), L15 GND (power), L18 GND (power), L21 GND (power), L24 GND (power), L27 GND (power), L30 GND (power), L33 GND (power), M1 GND (power), M2 GND (power), M3 GND (power), M4 GND (power), M5 GND (power), M6 GND (power), M7 GND (power), N3 GND (power), N6 GND (power), N7 GND (power), N13 GND (power), N14 GND (power), N15 GND (power), N16 GND (power), N20 GND (power), P1 GND (power), P2 GND (power), P3 GND (power), P4 GND (power), P5 GND (power), P6 GND (power), P7 GND (power), P9 GND (power), P10 GND (power), P11 GND (power), P12 GND (power), P13 GND (power), P15 GND (power), P17 GND (power), P19 GND (power), P21 GND (power), P22 GND (power), P24 GND (power), P27 GND (power), P30 GND (power), P33 GND (power), R3 GND (power), R6 GND (power), R7 GND (power), R8 GND (power), R10 GND (power), R12 GND (power), R14 GND (power), R16 GND (power), R18 GND (power), R20 GND (power), R22 GND (power), T1 GND (power), T2 GND (power), T3 GND (power), T4 GND (power), T5 GND (power), T6 GND (power), T7 GND (power), T13 GND (power), T15 GND (power), T17 GND (power), T19 GND (power), T21 GND (power), T24 GND (power), T27 GND (power), T30 GND (power), T33 GND (power), U1 GND (power), U2 GND (power), U3 GND (power), U4 GND (power), U5 GND (power), U14 GND (power), U16 GND (power), U18 GND (power), U20 GND (power), U22 GND (power), V3 GND (power), V5 GND (power), V6 GND (power), V7 GND (power), V9 GND (power), V10 GND (power), V11 GND (power), V12 GND (power), V13 GND (power), V15 GND (power), V17 GND (power), V19 GND (power), V21 GND (power), V22 GND (power), V24 GND (power), V27 GND (power), V30 GND (power), V33 GND (power), W1 GND (power), W2 GND (power), W3 GND (power), W4 GND (power), W5 GND (power), W6 GND (power), W10 GND (power), W14 GND (power), W16 GND (power), W18 GND (power), W20 GND (power), W22 GND (power), Y3 GND (power), Y6 GND (power), Y7 GND (power), Y13 GND (power), Y15 GND (power), Y17 GND (power), Y19 GND (power), Y21 GND (power)
part S pins: AE16 VCCA_PLL6 (power), AE17 GNDA_PLL6 (power), AE18 VCCA_PLL12 (power), AE20 VCC_PLL12_OUT (power), AE25 VCCD_PLL8 (power), AE26 GNDA_PLL8 (power), AF16 VCCD_PLL6 (power), AF17 GNDA_PLL6 (power), AF18 GNDA_PLL12 (power), AF19 GNDA_PLL12 (power), AF20 VCCD_PLL12 (power), AF25 GNDA_PLL8 (power), AF26 VCCA_PLL8 (power), AG16 VCC_PLL6_OUT (power), H16 VCC_PLL5_OUT (power), H17 VCCD_PLL5 (power), J16 GNDA_PLL5 (power), J17 GNDA_PLL5 (power), J18 GNDA_PLL11 (power), J19 VCCD_PLL11 (power), J25 GNDA_PLL7 (power), J26 VCCA_PLL7 (power), K16 VCCA_PLL5 (power), K17 VCCA_PLL11 (power), K18 GNDA_PLL11 (power), K20 VCC_PLL11_OUT (power), K25 VCCD_PLL7 (power), K26 GNDA_PLL7 (power), R26 GNDA_PLL1 (power), R27 VCCD_PLL1 (power), T25 VCCA_PLL1 (power), T26 GNDA_PLL1 (power), V25 VCCA_PLL2 (power), V26 GNDA_PLL2 (power), W26 GNDA_PLL2 (power), W27 VCCD_PLL2 (power)
part T pins: L7 NC, L8 NC, L9 NC, W7 NC, W8 NC
part A text: BANK 1
part B text: BANK 2
part C text: BANK 3
part D text: BANK 4
part E text: BANK 7
part F text: BANK 8
part G text: BANK 9
part H text: BANK 10
part I text: BANK 11
part J text: BANK 12
part K text: BANK 13
part L text: BANK 14
part M text: BANK 15

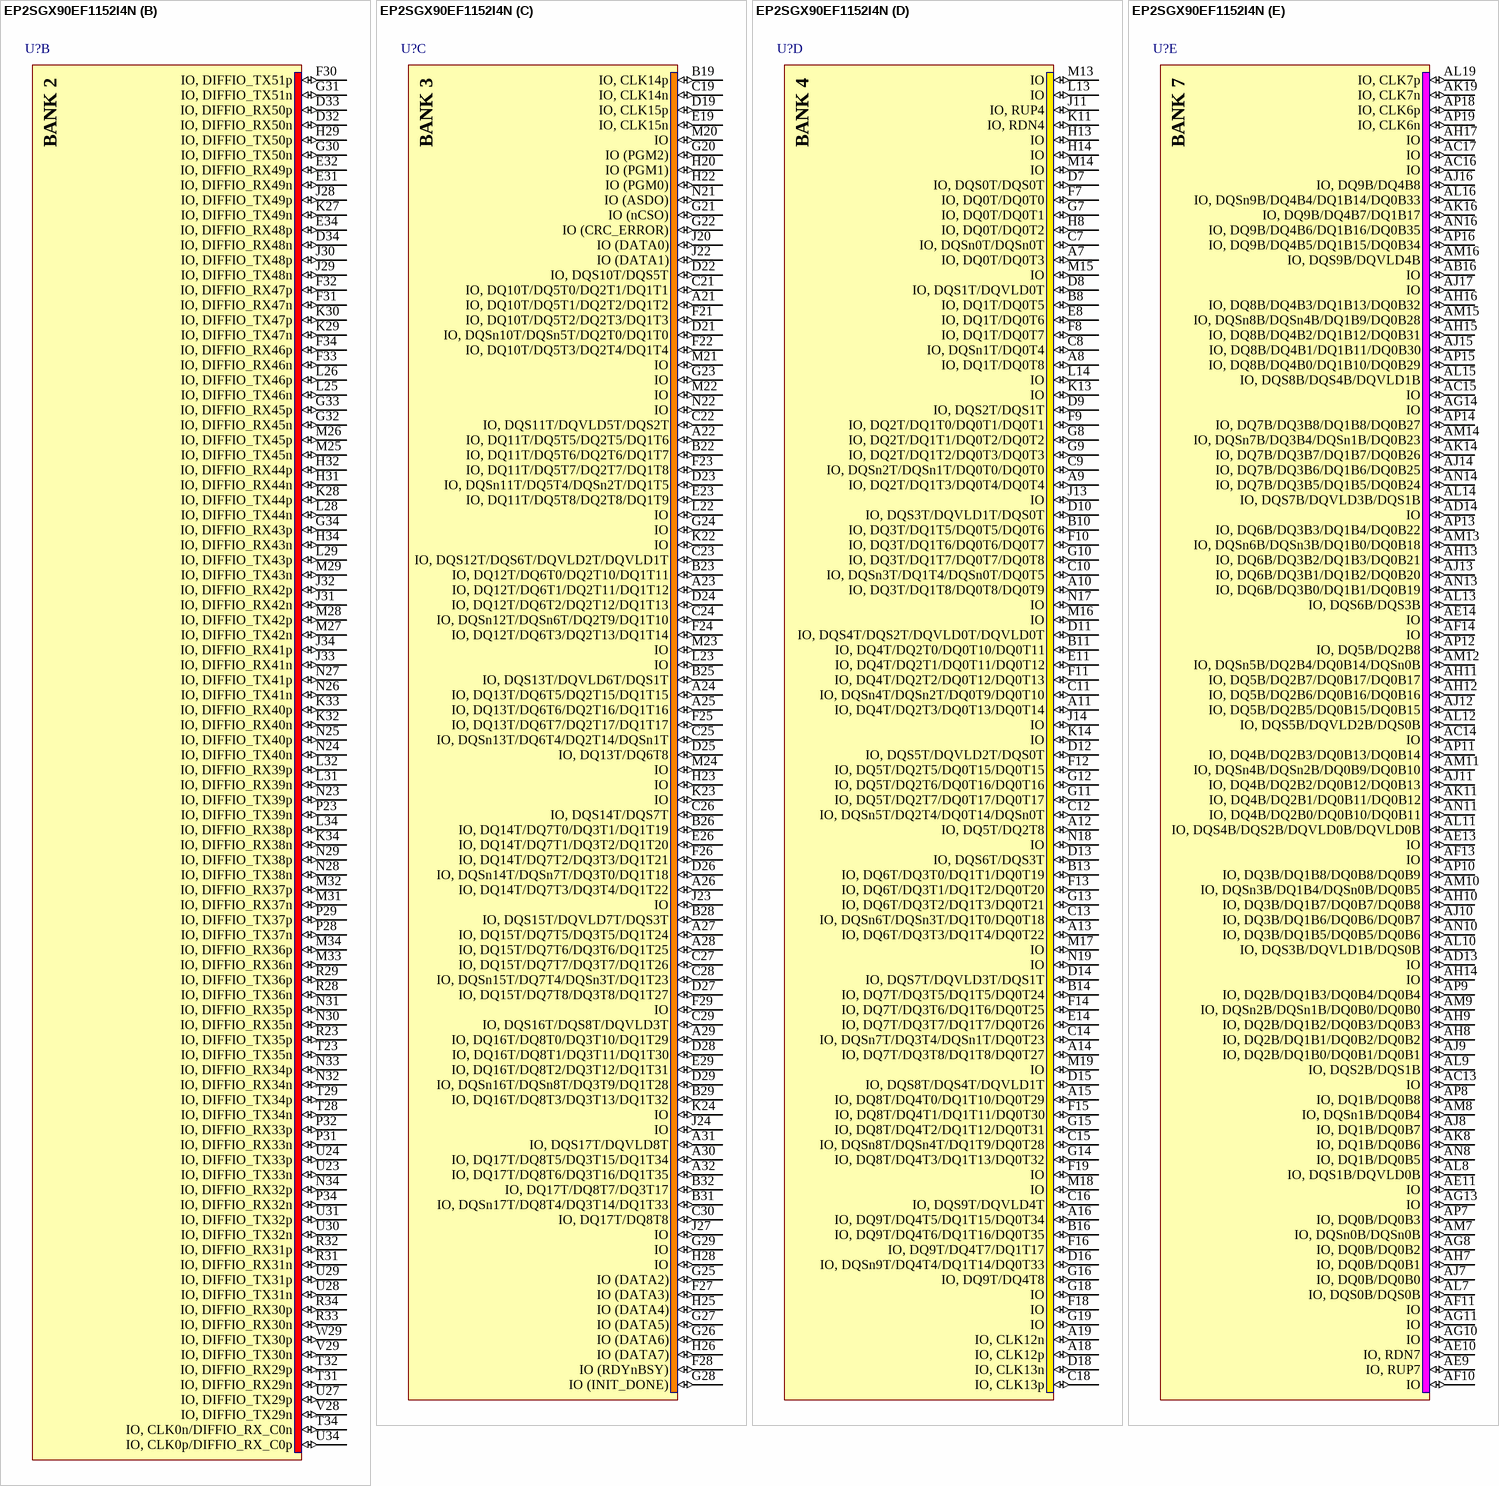
[diagram p119: symbol EP2SGX90EF1152I4N]

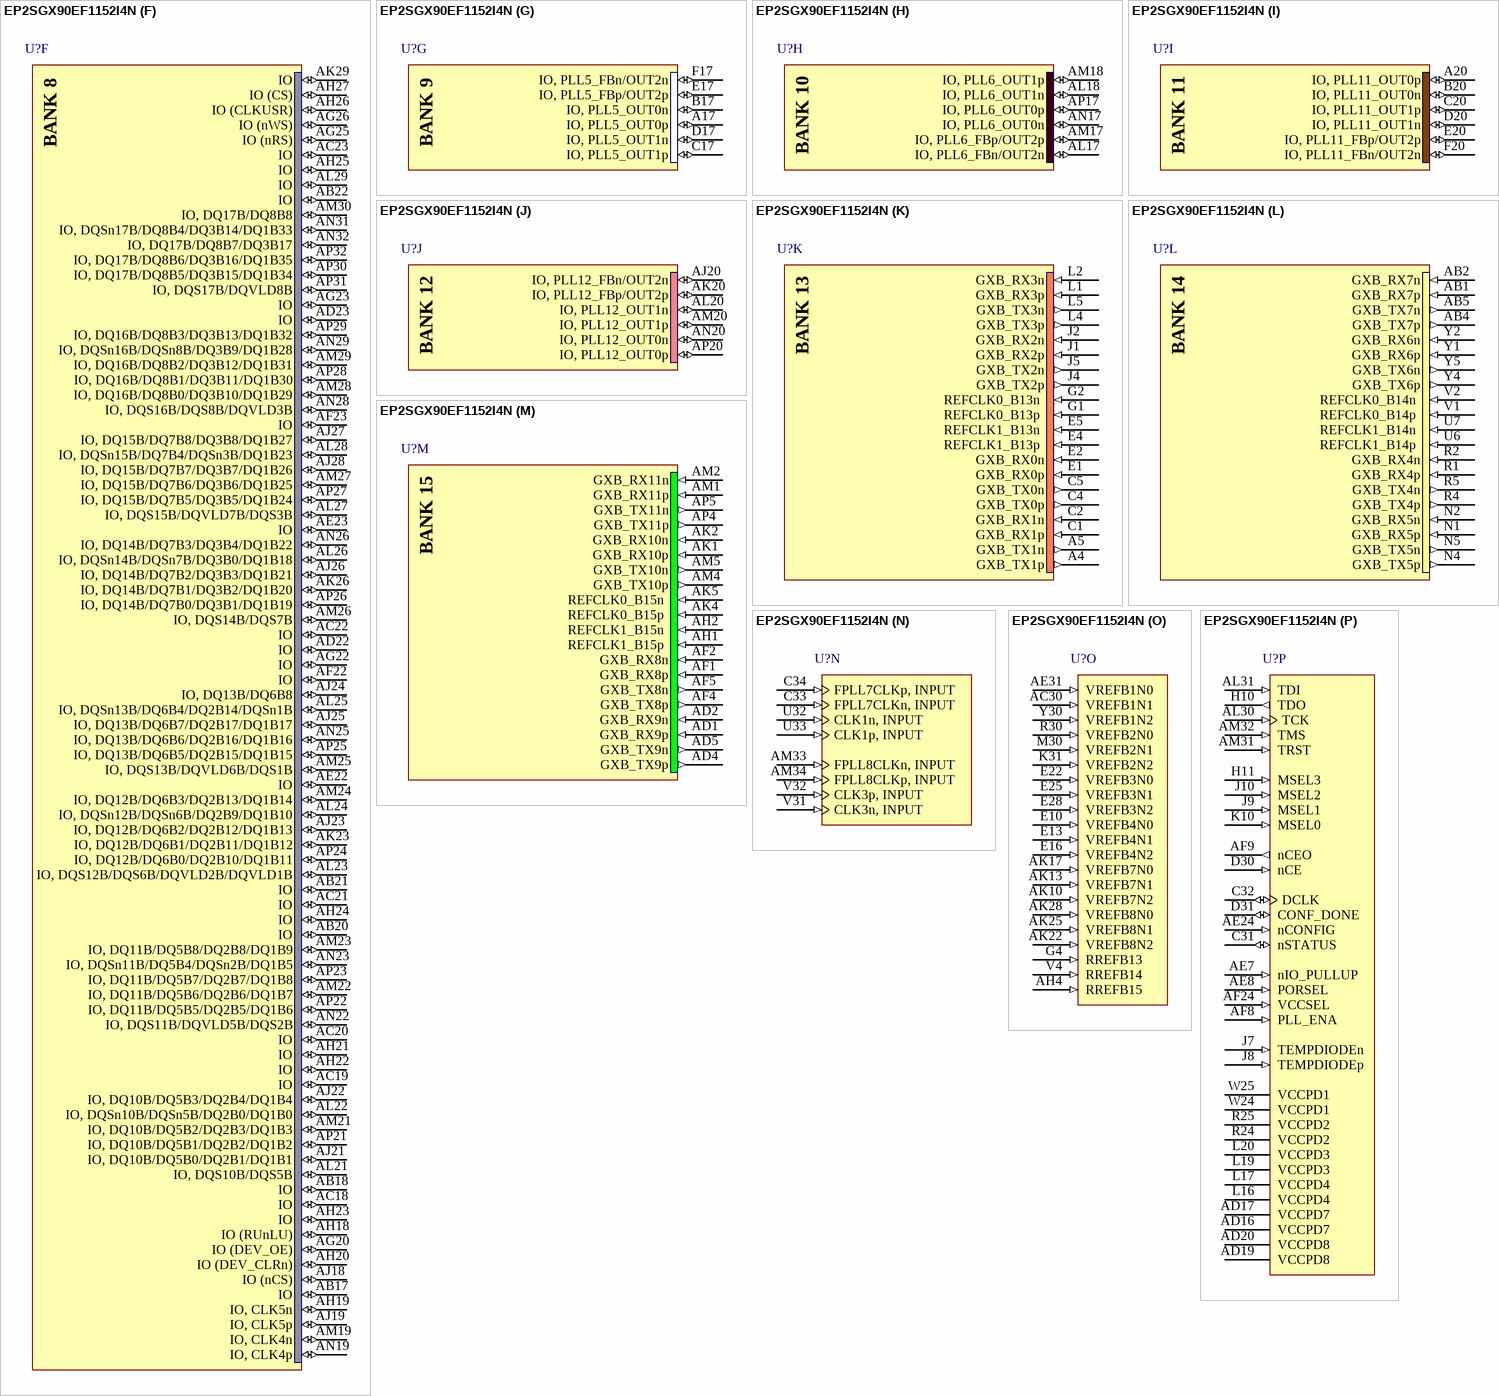
[diagram p120: symbol EP2SGX90EF1152I4N]

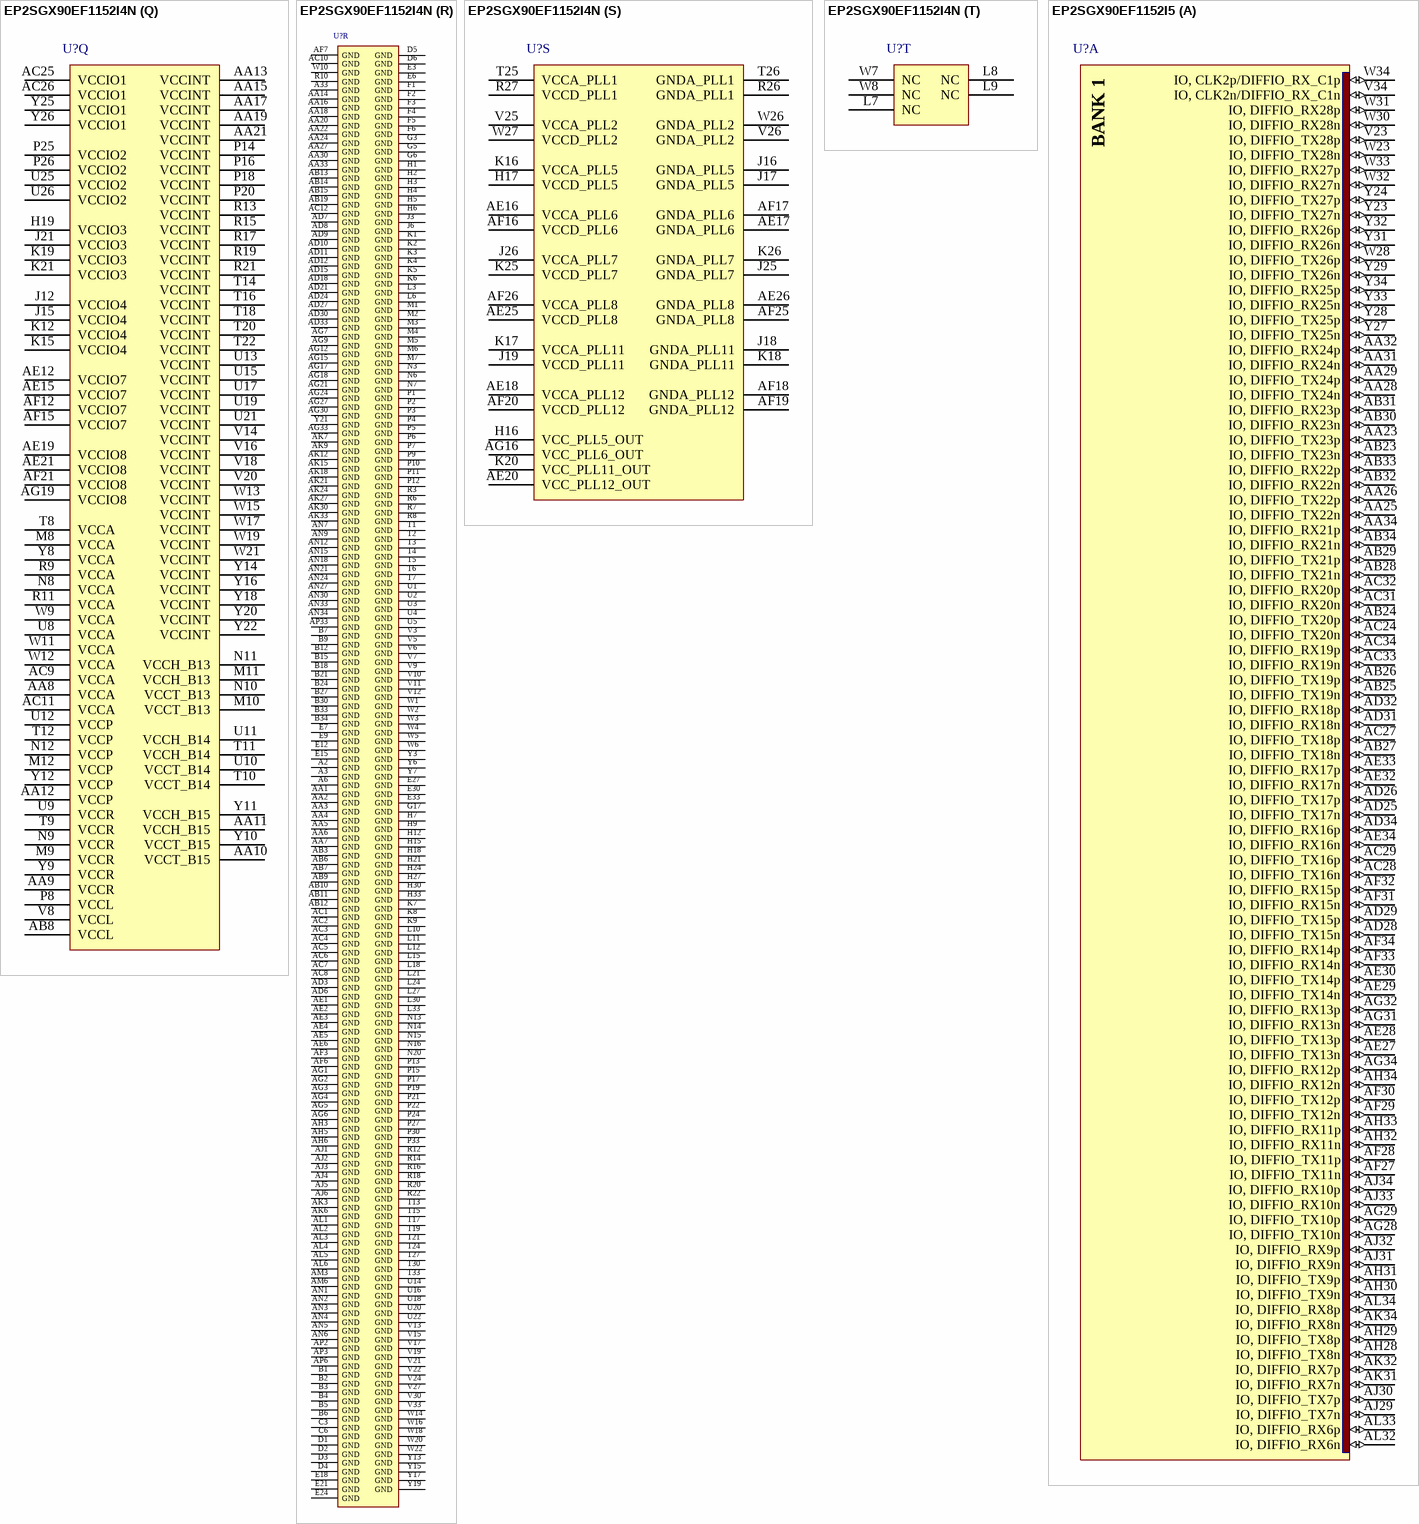
[diagram p121: symbols EP2SGX90EF1152I4N to EP2SGX90EF1152I5]